# EAGLE library part ZM1000 (library mynixies)
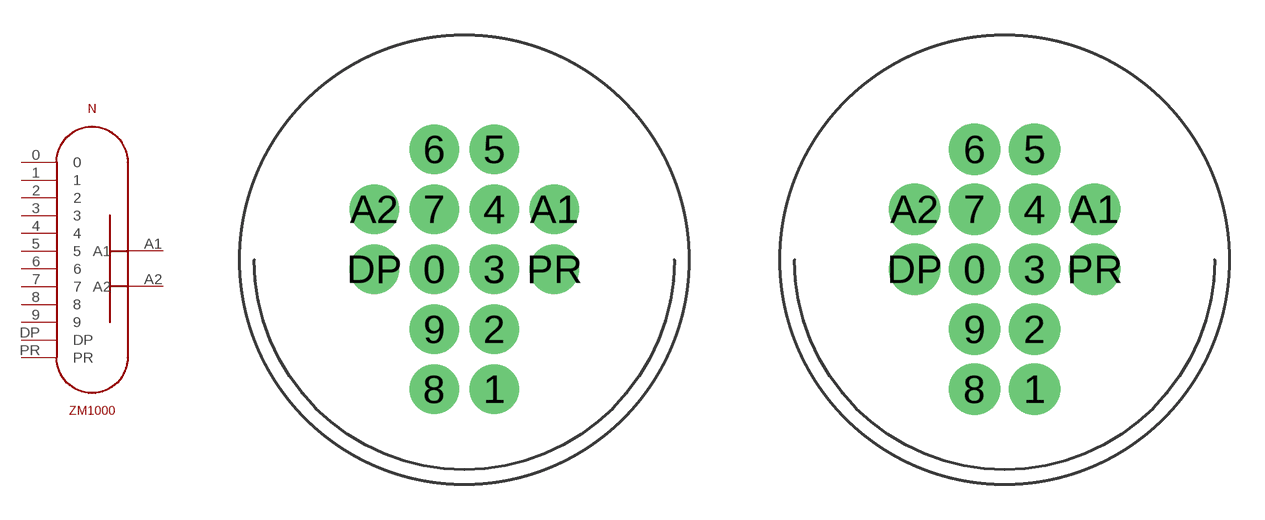
[diagram p5: symbol with the pads of ZM1000-DSUB; footprints ZM1000-DSUB, ZM1000-0339]

Designator prefix N

## ZM1000D-SUB  [ZM1000-DSUB]
0  0  pas
1  1  pas
2  2  pas
3  3  pas
4  4  pas
5  5  pas
6  6  pas
7  7  pas
8  8  pas
9  9  pas
A1  A1  pas
A2  A2  pas
DP  DP  pas
PR  PR  pas

## ZM1000  [ZM1000-0339]
Pads as for ZM1000-DSUB

## Footprint ZM1000-DSUB (pad centres in mm)
drill 1.4: 0 -1.27,-0.4; 1 1.27,-5.48; 2 1.27,-2.94; 3 1.27,-0.4; 4 1.27,2.14; 5 1.27,4.68; 6 -1.27,4.68; 7 -1.27,2.14; 8 -1.27,-5.48; 9 -1.27,-2.94; A1 3.81,2.14; A2 -3.81,2.14; DP -3.81,-0.4; PR 3.81,-0.4

## Footprint ZM1000-0339 (pad centres in mm)
drill 1.45: 0 -1.27,-0.4; 1 1.27,-5.48; 2 1.27,-2.94; 3 1.27,-0.4; 4 1.27,2.14; 5 1.27,4.68; 6 -1.27,4.68; 7 -1.27,2.14; 8 -1.27,-5.48; 9 -1.27,-2.94; A1 3.81,2.14; A2 -3.81,2.14; DP -3.81,-0.4; PR 3.81,-0.4